# Altium footprint library CUI_TBP03R1-350-02BE.PcbLib: 1 footprints
Each footprint in its own frame and in the unit in brackets; x right, y up, seen from the top. Pads: shape width x height; smd on the part's side, far side on the other; paste and mask are expansions set on the pad; w line width, h text height; cw(c..) or ccw(c..) is an arc to the next point about the centre after c.
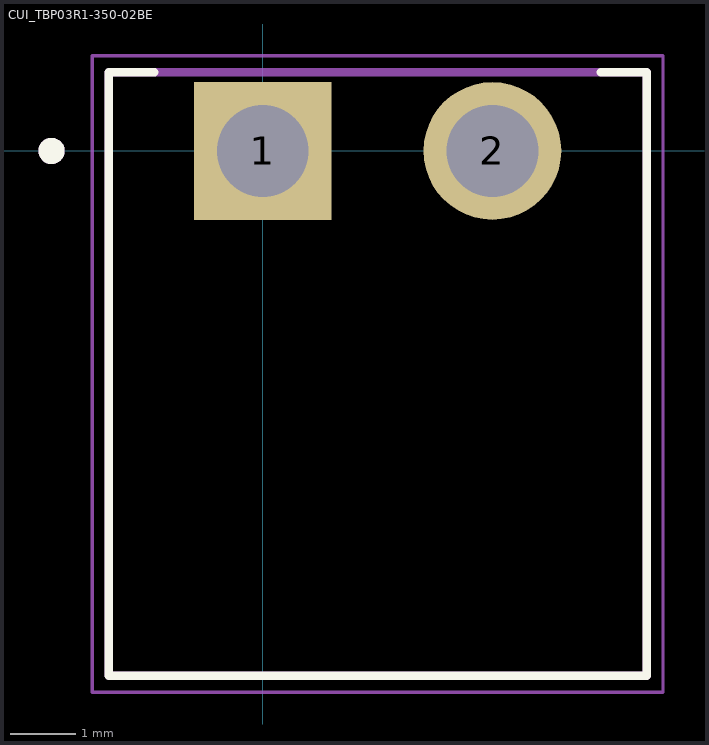
[diagram p0: the footprint, top view; thin cyan lines are the x and y axes]

## CUI_TBP03R1-350-02BE [mm]
height 7.2
pads (2):
  rect 2.1x2.1 / inner round 2.1 / far side rect 2.1x2.1 hole 1.4: 1(0,0)
  round 2.1 hole 1.4: 2(3.5,0)
Top Overlay:
  circle w0.2: c-3.22,0 r0.1
  lines w0.127: -1.65,1.2 -2.35,1.2 -2.35,-8 5.85,-8 5.85,1.2 5.15,1.2
Assembly Top:
  circle w0.2: c-3.22,0 r0.1
  lines w0.127: -2.35,-8 5.85,-8 5.85,1.2 -2.35,1.2 -2.35,-8
Courtyard Top:
  lines w0.05: -2.6,-8.25 6.1,-8.25 6.1,1.45 -2.6,1.45 -2.6,-8.25
3D body "step_temp.STEP": height 7.18, standoff -3.42, extent -2.322,-8.057 5.878,1.143